# EAGLE library part AT86RF212 (library atmel)
700/800/900 MHz-Band Transceiver Low Power Transceiver for IEEE 802.15.4 Zigbee, 6LoWPAN, and ISM Applications
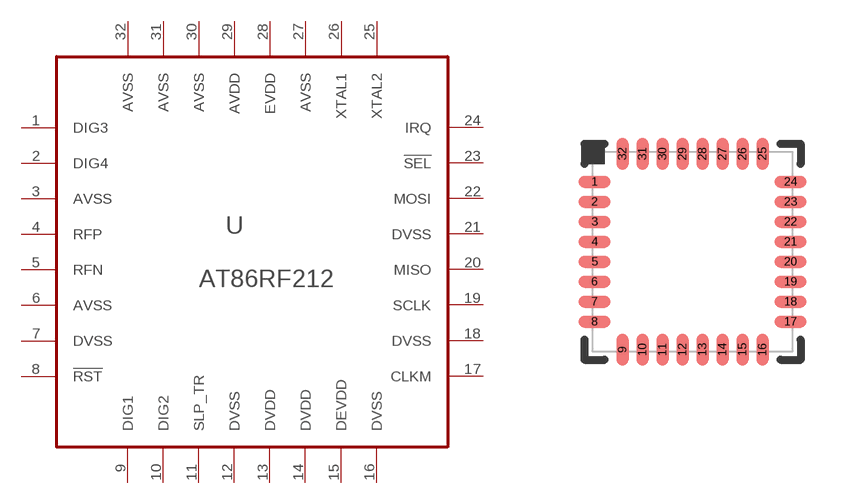
[diagram p56: symbol with the pads of QFN32-5X5; footprint QFN32-5X5]

Designator prefix U

## AT86RF212  [QFN32-5X5]
1  DIG3  out
2  DIG4  out
3  AVSS  pwr
4  RFP
5  RFN
6  AVSS  pwr
7  DVSS  pwr
8  !RST!  in
9  DIG1  out
10  DIG2  out
11  SLP_TR  in
12  DVSS  pwr
13  DVDD  pwr
14  DVDD  pwr
15  DEVDD  pwr
16  DVSS  pwr
17  CLKM  out
18  DVSS  pwr
19  SCLK  in
20  MISO  out
21  DVSS  pwr
22  MOSI  in
23  !SEL!  in
24  IRQ  out
25  XTAL2  out
26  XTAL1  in
27  AVSS  pwr
28  EVDD  pwr
29  AVDD  pwr
30  AVSS  pwr
31  AVSS  pwr
32  AVSS  pwr

## Footprint QFN32-5X5 (pad centres in mm)
QFN-32 pitch 0.5 mm, body 5x5 mm
smd 0.8 x 0.3: 1 -2.45,1.75; 2 -2.45,1.25; 3 -2.45,0.75; 4 -2.45,0.25; 5 -2.45,-0.25; 6 -2.45,-0.75; 7 -2.45,-1.25; 8 -2.45,-1.75; 17 2.45,-1.75; 18 2.45,-1.25; 19 2.45,-0.75; 20 2.45,-0.25; 21 2.45,0.25; 22 2.45,0.75; 23 2.45,1.25; 24 2.45,1.75
smd 0.3 x 0.8: 9 -1.75,-2.45; 10 -1.25,-2.45; 11 -0.75,-2.45; 12 -0.25,-2.45; 13 0.25,-2.45; 14 0.75,-2.45; 15 1.25,-2.45; 16 1.75,-2.45; 25 1.75,2.45; 26 1.25,2.45; 27 0.75,2.45; 28 0.25,2.45; 29 -0.25,2.45; 30 -0.75,2.45; 31 -1.25,2.45; 32 -1.75,2.45